# EAGLE library part THROUHOLE15 (library pinhead-half-pitch)
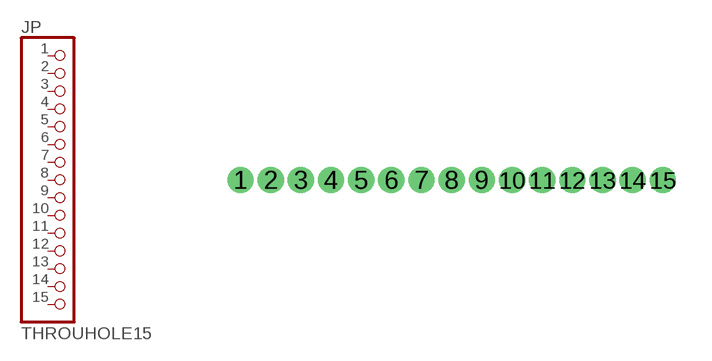
[diagram p1: symbol with the pads of THROUHOLE15; footprint THROUHOLE15]

Designator prefix JP

## THROUHOLE15  [THROUHOLE15]
1  1  pas
2  2  pas
3  3  pas
4  4  pas
5  5  pas
6  6  pas
7  7  pas
8  8  pas
9  9  pas
10  10  pas
11  11  pas
12  12  pas
13  13  pas
14  14  pas
15  15  pas

## Footprint THROUHOLE15 (pad centres in mm)
drill 0.6: 1 -8.89,0; 2 -7.62,0; 3 -6.35,0; 4 -5.08,0; 5 -3.81,0; 6 -2.54,0; 7 -1.27,0; 8 0,0; 9 1.27,0; 10 2.54,0; 11 3.81,0; 12 5.08,0; 13 6.35,0; 14 7.62,0; 15 8.89,0